# Altium footprint library library.PcbLib: 385 footprints (part 21 of 25)
Each footprint in its own frame and in the unit in brackets; x right, y up, seen from the top. Pads: shape width x height; smd on the part's side, far side on the other; paste and mask are expansions set on the pad; w line width, h text height; cw(c..) or ccw(c..) is an arc to the next point about the centre after c.
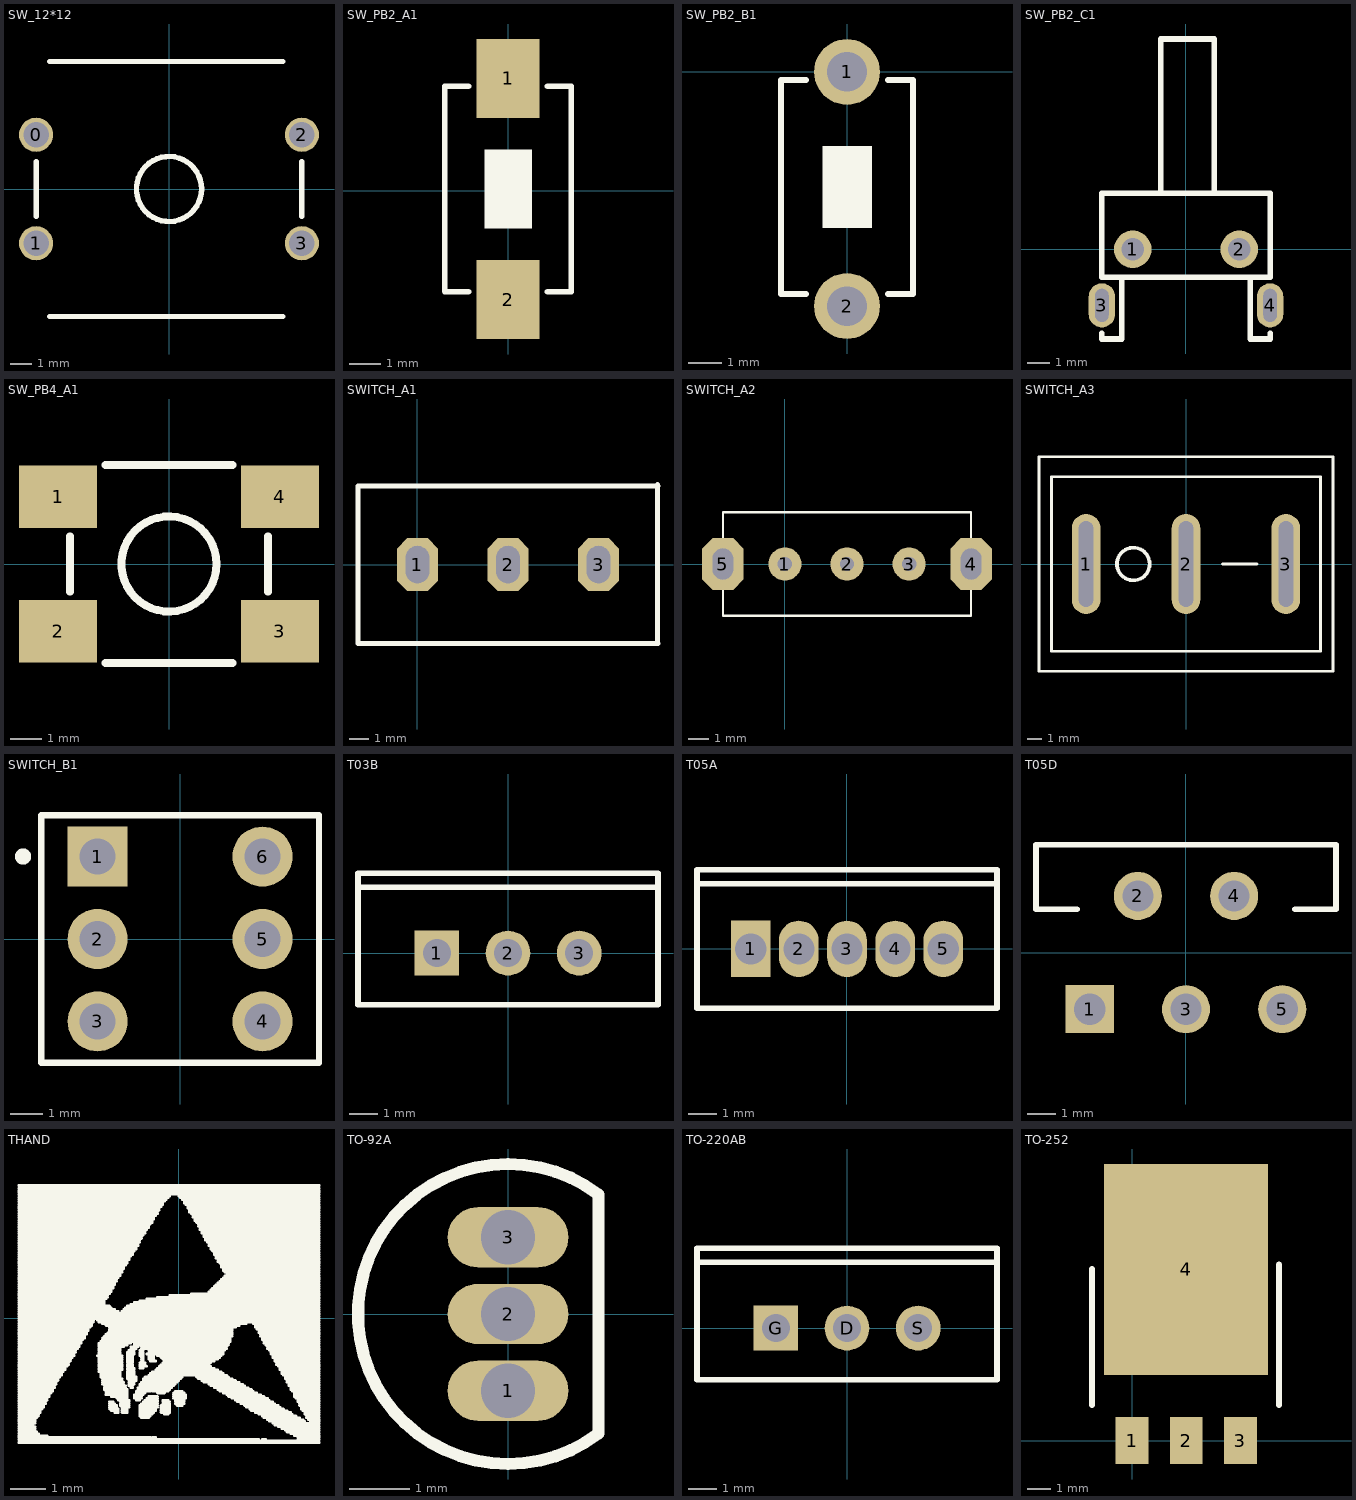
[diagram p20: the footprints below, top view; thin cyan lines are the x and y axes]

## SW_12*12 [mm]
height 15
pads (4):
  round 1.6 hole 1.2: 0(-6.223,2.54) 1(-6.223,-2.54) 2(6.223,2.54) 3(6.223,-2.54)
Top Overlay:
  circle w0.254: c0,0 r1.524
  lines w0.25: -6.223,-1.27 -6.223,1.27 ; -5.588,-5.969 5.334,-5.969 ; -5.588,5.969 5.334,5.969 ; 6.223,-1.27 6.223,1.27
3D body: height 1.5, standoff 0, extent -5.588,-5.715 5.334,5.715
3D body: height 6, standoff 0, extent -1.524,-1.524 1.524,1.524

## SW_PB2_A1 [mm]
pads (2):
  rect 2x2.5 smd: 1(0,3.556) 2(0,-3.444)
Top Overlay:
  region: -0.747,1.309 -0.747,-1.191 0.753,-1.191 0.753,1.309
  lines w0.178: -1.25,-3.194 -2,-3.19 -2,3.306 -1.25,3.306 ; 1.25,-3.194 2,-3.194 2,3.306 1.25,3.306
3D body: height 1.2, standoff 0.8, extent -0.762,-1.143 0.762,1.27
3D body: height 0.8, standoff 0, extent -2.032,-3.175 2.032,3.302

## SW_PB2_B1 [mm]
pads (2):
  round 2 hole 1.2: 1(0,0) 2(0,-7.112)
Top Overlay:
  region: -0.747,-2.247 -0.747,-4.747 0.753,-4.747 0.753,-2.247
  lines w0.178: -1.25,-6.75 -2,-6.746 -2,-0.25 -1.25,-0.25 ; 1.25,-6.75 2,-6.75 2,-0.25 1.25,-0.25

## SW_PB2_C1 [mm] "侧卧微动开关"
height 8
pads (4):
  round 1.7 hole 1: 1(-2.413,0) 2(2.413,0)
  oval 1.2x2 hole 0.6 slot 1.5 at 90 deg: 3(-3.81,-2.54) 4(3.81,-2.54)
Top Overlay:
  lines w0.25: -3.81,-3.81 -3.81,-4.064 -2.921,-4.064 -2.921,-1.27 ; -1.143,2.54 -1.143,9.525 1.27,9.525 1.27,2.54 ; 2.921,-1.27 2.921,-4.064 3.81,-4.064 3.81,-3.81 ; -3.81,-1.27 -3.81,2.54 3.81,2.54 3.81,-1.27 -3.81,-1.27

## SW_PB4_A1 [mm]
pads (4):
  rect 2.5x2 smd: 1(-3.556,2.159) 2(-3.556,-2.159) 3(3.556,-2.159) 4(3.556,2.159)
Top Overlay:
  circle w0.254: c0,0 r1.524
  lines w0.25: -3.175,-0.889 -3.175,0.889 ; -2.032,-3.175 2.032,-3.175 ; -2.032,3.175 2.032,3.175 ; 3.175,-0.889 3.175,0.889
3D body: height 1.5, standoff 0, extent -3.175,-3.175 3.175,3.175
3D body: height 6, standoff 0, extent -1.524,-1.524 1.524,1.524

## SWITCH_A1 [mm] "扭子开关"
height 10
pads (3):
  oct 2.1x2.7 hole 1.2 slot 1.9 at 90 deg: 1(0,0) 2(4.6,0) 3(9.2,0)
Top Overlay:
  lines w0.254: 12.192,-3.972 12.192,4.064 ; 12.22,-4 -3.02,-4 -3.02,4 12.22,4

## SWITCH_A2 [mm] "平拨开关"
height 9
pads (5):
  round 1.6 hole 0.7: 1(0,0) 2(3,0) 3(6,0)
  oct 2x2.5 hole 1 slot 1.5 at 90 deg: 4(9,0) 5(-3,0)
Top Overlay:
  lines w0.1: -3,-2.5 -3,2.5 9,2.5 9,-2.5 -3,-2.5

## SWITCH_A3 [mm] "单刀单掷开关"
height 9
pads (3):
  oval 2x7 hole 1 slot 6 at 90 deg: 1(-6.985,0) 2(0,0) 3(6.985,0)
Top Overlay:
  circle w0.254: c-3.683,0 r1.143
  lines w0.2: 2.54,0 4.953,0 ; -10.287,-7.493 -10.287,7.493 10.287,7.493 10.287,-7.493 -10.287,-7.493 ; -9.398,-6.096 9.398,-6.096 9.398,6.096 -9.398,6.096 -9.398,-6.096

## SWITCH_B1 [mm] "单刀"
height 1.75
pads (6):
  rect 1.85x1.85 hole 1.1: 1(-2.54,2.54)
  round 1.85 hole 1.1: 2(-2.54,0) 3(-2.54,-2.54) 4(2.54,-2.54) 5(2.54,0) 6(2.54,2.54)
Top Overlay:
  circle w0.25: c-4.836,2.541 r0.125
  lines w0.2: -4.28,-3.81 -4.28,3.81 4.28,3.81 4.28,-3.81 -4.28,-3.81

## T03B [mm] "TO, Thru-Hole, Vertical, Heatsink Mounted; 3 In-Line Leads; Pitch 2.54 mm"
height 19.4
pads (3):
  rect 1.6x1.6 hole 1: 1(-2.54,0)
  round 1.6 hole 1: 2(0,0) 3(2.54,0)
Top Overlay:
  lines w0.2: -5.35,2.35 5.35,2.35 ; -5.35,-1.85 5.35,-1.85 5.35,2.85 -5.35,2.85 -5.35,-1.85

## T05A [mm] "TO, Thru-Hole, Vertical, Heatsink Mounted; 5 In-Line Leads; Pitch 1.70 mm"
height 15.3
pads (5):
  rect 1.4x2 hole 1.1: 1(-3.4,0)
  oval 1.4x2 hole 1.1: 2(-1.7,0) 3(0,0) 4(1.7,0) 5(3.4,0)
Top Overlay:
  lines w0.2: -5.3,2.3 5.3,2.3 ; -5.3,-2.1 5.3,-2.1 5.3,2.8 -5.3,2.8 -5.3,-2.1

## T05D [mm]
height 21.1
pads (5):
  rect 1.7x1.7 hole 1.1: 1(-3.4,-2)
  round 1.7 hole 1.1: 2(-1.7,2) 3(0,-2) 4(1.7,2) 5(3.4,-2)
Top Overlay:
  lines w0.2: -3.854,1.53 -5.3,1.53 -5.3,3.81 5.3,3.81 5.3,1.53 3.854,1.53

## THAND [mm]
Top Overlay:
  drawing of 472 lines, arcs and shapes, not listed

## TO-92A [mm]
height 6.86
pads (3):
  oval 2x1 hole 0.9: 1(0,-1.27) 2(0,0) 3(0,1.27)
Top Overlay:
  lines w0.2: 1.5,-1.98 cw(c0,0) 1.5,1.98 1.5,-1.98

## TO-220AB [mm] "TO, Thru-Hole, Vertical, Heatsink Mounted; 3 In-Line Leads; Pitch 2.54 mm"
height 19.3
pads (3):
  round 1.6 hole 1: D(0,0) S(2.54,0)
  rect 1.6x1.6 hole 1: G(-2.54,0)
Top Overlay:
  lines w0.2: -5.35,2.35 5.35,2.35 ; -5.35,-1.85 5.35,-1.85 5.35,2.85 -5.35,2.85 -5.35,-1.85
3D body: height 3.6, standoff 0.6, extent -5.334,-1.778 5.334,2.286
3D body: height 0.6, standoff 0, extent -3.302,-0.381 -1.778,0.508
3D body: height 0.6, standoff 0, extent -0.762,-0.381 0.762,0.508
3D body: height 0.6, standoff 0, extent 1.778,-0.381 3.302,0.508
3D body: height 4, standoff 0.6, extent -5.334,2.286 5.334,2.794

## TO-252 [mm]
pads (4):
  rect 1.4x2 smd: 1(0,0) 2(2.311,0) 3(4.623,0)
  rect 7x9 smd: 4(2.3,7.3)
Top Overlay:
  lines w0.254: -1.716,1.524 -1.716,7.315 ; 6.261,1.524 6.261,7.515